# EAGLE library part 105028-1001 (library APU_PayloadBoard_Library)
32 (4 x 8) Pos Camera Socket Socket Gold Surface Mount Check availability <https://pricing.snapeda.com/parts/1050281001/Molex/view-part?ref=eda>
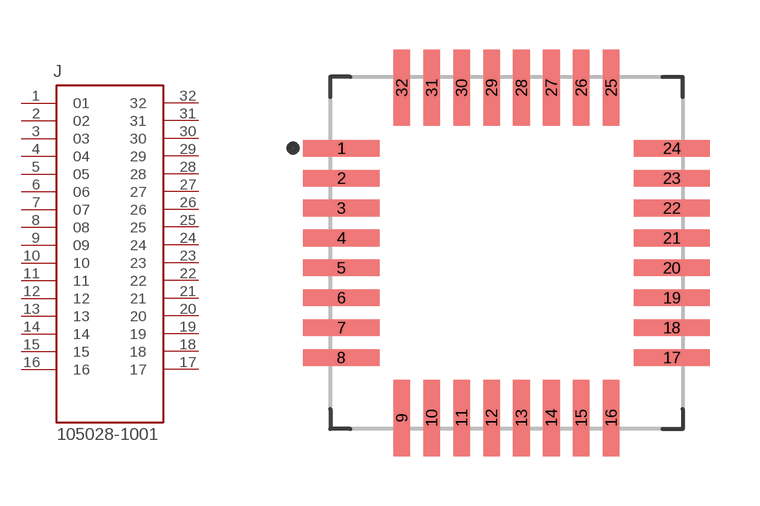
[diagram p0: symbol with the pads of MOLEX_105028-1001; footprint MOLEX_105028-1001]

Designator prefix J

## 105028-1001 (AVAILABILITY: In Stock; DESCRIPTION: 32 (4 x 8) Pos Camera Socket Socket Gold Surface Mount; MF: Molex; MP: 1050281001; PACKAGE: None; PRICE: None; PURCHASE-URL: https://pricing.snapeda.com/search?q=1050281001&ref=eda)  [MOLEX_105028-1001]
1  01  pas
2  02  pas
3  03  pas
4  04  pas
5  05  pas
6  06  pas
7  07  pas
8  08  pas
9  09  pas
10  10  pas
11  11  pas
12  12  pas
13  13  pas
14  14  pas
15  15  pas
16  16  pas
17  17  pas
18  18  pas
19  19  pas
20  20  pas
21  21  pas
22  22  pas
23  23  pas
24  24  pas
25  25  pas
26  26  pas
27  27  pas
28  28  pas
29  29  pas
30  30  pas
31  31  pas
32  32  pas

## Footprint MOLEX_105028-1001 (pad centres in mm)
smd 2.286 x 0.5: 1 -4.97,3.15; 2 -4.97,2.25; 3 -4.97,1.35; 4 -4.97,0.45; 5 -4.97,-0.45; 6 -4.97,-1.35; 7 -4.97,-2.25; 8 -4.97,-3.15; 17 4.97,-3.15; 18 4.97,-2.25; 19 4.97,-1.35; 20 4.97,-0.45; 21 4.97,0.45; 22 4.97,1.35; 23 4.97,2.25; 24 4.97,3.15
smd 0.5 x 2.286: 9 -3.15,-4.97; 10 -2.25,-4.97; 11 -1.35,-4.97; 12 -0.45,-4.97; 13 0.45,-4.97; 14 1.35,-4.97; 15 2.25,-4.97; 16 3.15,-4.97; 25 3.15,4.97; 26 2.25,4.97; 27 1.35,4.97; 28 0.45,4.97; 29 -0.45,4.97; 30 -1.35,4.97; 31 -2.25,4.97; 32 -3.15,4.97